# Altium schematic symbol library SCH - OPAMP - TI TLV9301 DCK.SCHLIB: 1 symbol
Pins are listed as number, name and electrical type; pins without a type are passive.

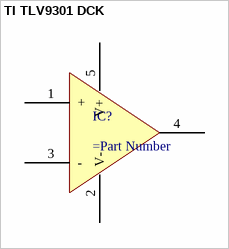
[diagram p0: symbol TI TLV9301 DCK]

## TI TLV9301 DCK
designator IC?
General Purpose Amplifier 1 Circuit Rail-to-Rail SOT-23-5
pins: 1 +, 2 V-, 3 -, 4 OUT, 5 V+